# Altium schematic symbol library RES POT.SchLib: 1 symbol
Pins are listed as number, name and electrical type; pins without a type are passive.

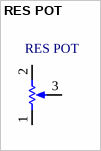
[diagram p0: symbol RES POT]

## RES POT
designator RES POT  (value not drawn)
footprint RES POT
pins: 1 TOP, 2 BOT, 3 TAP